# Altium footprint library 47053-001.PcbLib: 1 footprints
Each footprint in its own frame and in the unit in brackets; x right, y up, seen from the top. Pads: shape width x height; smd on the part's side, far side on the other; paste and mask are expansions set on the pad; w line width, h text height; cw(c..) or ccw(c..) is an arc to the next point about the centre after c.
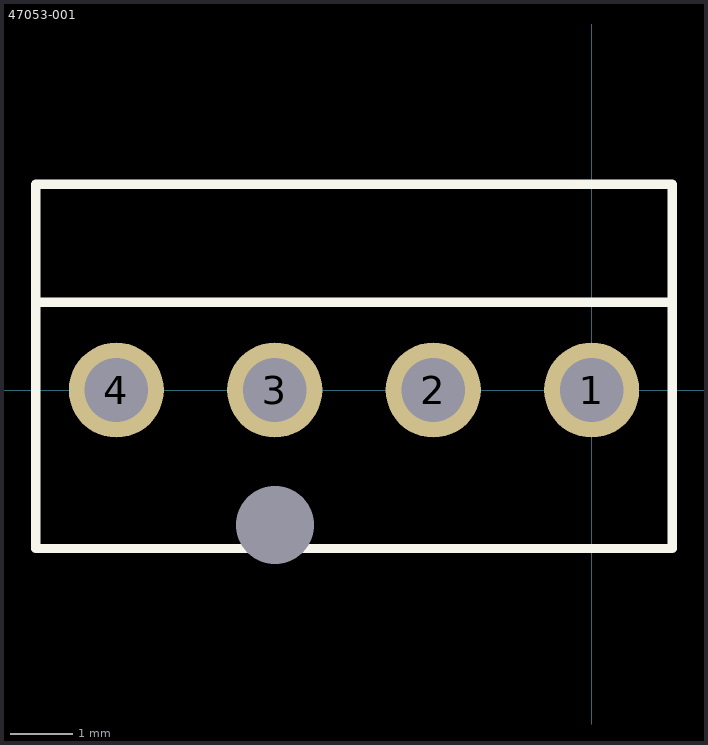
[diagram p0: the footprint, top view; thin cyan lines are the x and y axes]

## 47053-001 [mil] "3 pin fan connector"
pads (5):
  round 60 hole 40.16: 1(0,0) 2(-100,0) 3(-200,0) 4(-300,0)
  round 0 hole 49.21: ""(-200,-85.04)
Top Overlay:
  lines w5.91: -350.79,55.31 50.79,55.31 ; -350.79,-100 -350.79,129.92 50.79,129.92 50.79,-100 -350.79,-100
3D body "47053-001.step": height 395.28, standoff -136.22, extent -350.79,-100 50.79,129.92